# EAGLE library part 1X06_HEADER (library RBBB)
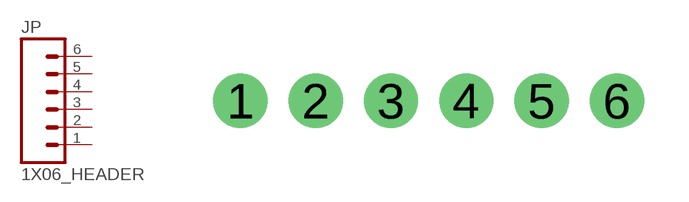
[diagram p0: symbol with the pads of 1X06_HEADER; footprint 1X06_HEADER]

Designator prefix JP

## 1X06_HEADER"  [1X06_HEADER]
1  1  pas
2  2  pas
3  3  pas
4  4  pas
5  5  pas
6  6  pas

## Footprint 1X06_HEADER (pad centres in mm)
drill 0.965 pad 1.829: 1 0,0; 2 2.54,0; 3 5.08,0; 4 7.62,0; 5 10.16,0; 6 12.7,0